# EAGLE library part BTS4300SGA (library PROFET - Infineon)
BTS4300SGA Smart High-Side Power Switch, VS 41V SOIC127P600X175-8N-21
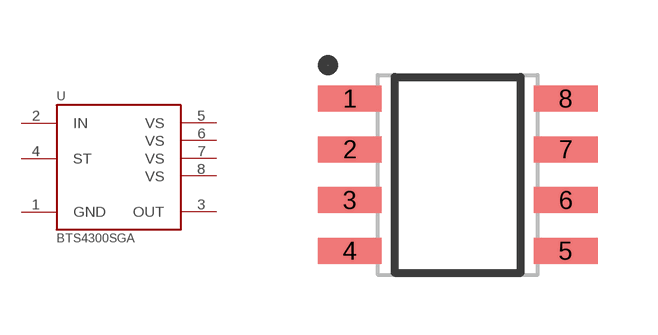
[diagram p29: symbol with the pads of SOIC127P600X175-8N-21; footprint SOIC127P600X175-8N-21]

Designator prefix U

## BTS4300SGA  [SOIC127P600X175-8N-21]
1  GND  pwr
2  IN  in
3  OUT  out
4  ST  oc
5  VS  pwr
6  VS  pwr
7  VS  pwr
8  VS  pwr

## Footprint SOIC127P600X175-8N-21 (pad centres in mm)
Original name SOIC127P600X175-8N-21 Max Component Height - 1.75mm
smd 1.6 x 0.65: 1 -2.7,1.905; 2 -2.7,0.635; 3 -2.7,-0.635; 4 -2.7,-1.905; 5 2.7,-1.905; 6 2.7,-0.635; 7 2.7,0.635; 8 2.7,1.905